# EAGLE library part ADP124ACPZ-3.3-R7 (library QUAD_ICs)
LDO 3.3V digital 5.5 V Input, 500 mA, Low Quiescent Current, CMOS Linear Regulators
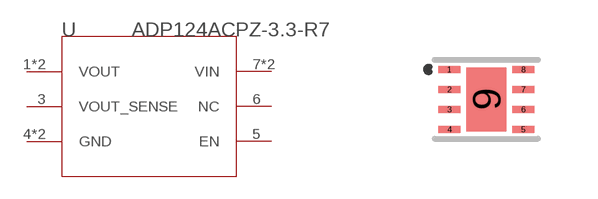
[diagram p10: symbol with the pads of CP_8_10_ADI-L; footprint CP_8_10_ADI-L]

Designator prefix U

## ADP124ACPZ-3.3-R7CP_8_10_ADI-L (BUILT_BY: EMA_Christopher; COPYRIGHT: Copyright (C) 2016 Accelerated Designs. All rights reserved; MANUFACTURER_PART_NUMBER: ADP124ACPZ-3.3-R7; SOURCELIBRARY: Analog_Devices_2018-07-13; VENDOR: Analog Devices Inc)  [CP_8_10_ADI-L]
1  VOUT  out
2  VOUT  out
3  VOUT_SENSE  out
4  GND  pas
5  EN  in
6  NC  pas
7  VIN  in
8  VIN  in
9  GND  pas

## Footprint CP_8_10_ADI-L (pad centres in mm)
smd 0.55 x 0.17: 1 -0.925,0.75; 2 -0.925,0.25; 3 -0.925,-0.25; 4 -0.925,-0.75; 5 0.925,-0.75; 6 0.925,-0.25; 7 0.925,0.25; 8 0.925,0.75
smd 1 x 1.6: 9 0,0